# Altium schematic symbol library Mini51Lib.SchLib: 15 symbols
Pins are listed as number, name and electrical type; pins without a type are passive.

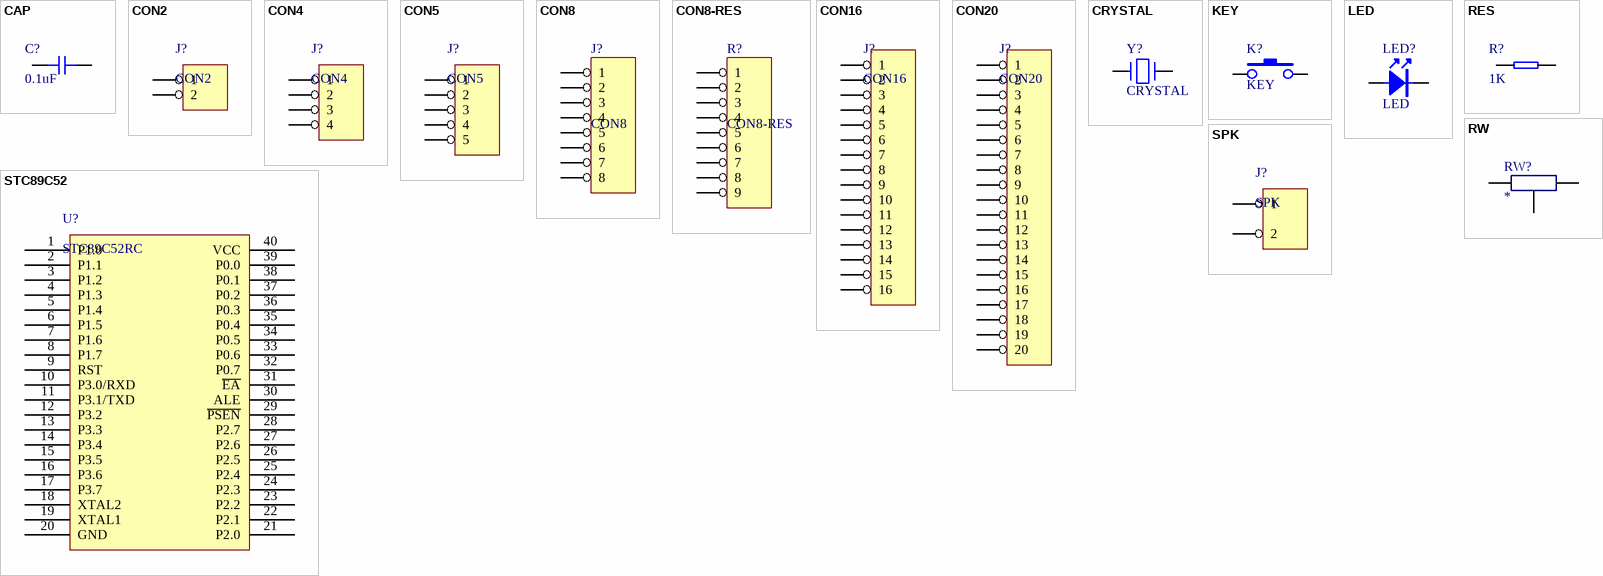
[diagram p0: symbols CAP to STC89C52]

## CAP
designator C?, comment 0.1uF
footprint 0805 (Footprint not found)
pins: 1, 2

## CON2
designator J?
footprint SIP2
pins: 1, 2

## CON4
designator J?
footprint SIP4 (Footprint not found)
pins: 1, 2, 3, 4

## CON5
designator J?
footprint SIP5
pins: 1, 2, 3, 4, 5

## CON8
designator J?
Connector 8p
pins: 1, 2, 3, 4, 5, 6, 7, 8
2 alternate drawings of the same symbol

## CON8-RES
designator R?
Connector 8p
footprint SIP8-RES
pins: 1, 2, 3, 4, 5, 6, 7, 8, 9
2 alternate drawings of the same symbol

## CON16
designator J?
footprint SIP16
pins: 1, 2, 3, 4, 5, 6, 7, 8, 9, 10, 11, 12, 13, 14, 15, 16

## CON20
designator J?
footprint SIP20
pins: 1, 2, 3, 4, 5, 6, 7, 8, 9, 10, 11, 12, 13, 14, 15, 16, 17, 18, 19, 20

## CRYSTAL
designator Y?
footprint XTAL-2
pins: 1, 2
2 alternate drawings of the same symbol

## KEY
designator K?
push-button
footprint KEY-6*6
pins: 1, 2
2 alternate drawings of the same symbol

## LED
designator LED?
Light-Emitting Diode
footprint 0805LD
pins: A 1, K 2
2 alternate drawings of the same symbol

## RES
designator R?, comment 1K
footprint 0805 (Footprint not found)
pins: 1, 2

## RW
designator RW?
10K
footprint RW
pins: 1, 2, 3

## SPK
designator J?
footprint SPK
pins: 1, 2

## STC89C52
designator U?, comment STC89C52RC
footprint DIP40
pins: 1 P1.0, 2 P1.1, 3 P1.2, 4 P1.3, 5 P1.4, 6 P1.5, 7 P1.6, 8 P1.7, 9 RST, 10 P3.0/RXD, 11 P3.1/TXD, 12 P3.2, 13 P3.3, 14 P3.4, 15 P3.5, 16 P3.6, 17 P3.7, 18 XTAL2, 19 XTAL1, 20 GND, 21 P2.0, 22 P2.1, 23 P2.2, 24 P2.3, 25 P2.4, 26 P2.5, 27 P2.6, 28 P2.7, 29 ~{PSEN}, 30 ALE, 31 ~{EA}, 32 P0.7, 33 P0.6, 34 P0.5, 35 P0.4, 36 P0.3, 37 P0.2, 38 P0.1, 39 P0.0, 40 VCC
1 alternate drawing of the same symbol